# Altium footprint library SAMTEC_TSW-101-23-T-T.PcbLib: 1 footprints
Each footprint in its own frame and in the unit in brackets; x right, y up, seen from the top. Pads: shape width x height; smd on the part's side, far side on the other; paste and mask are expansions set on the pad; w line width, h text height; cw(c..) or ccw(c..) is an arc to the next point about the centre after c.
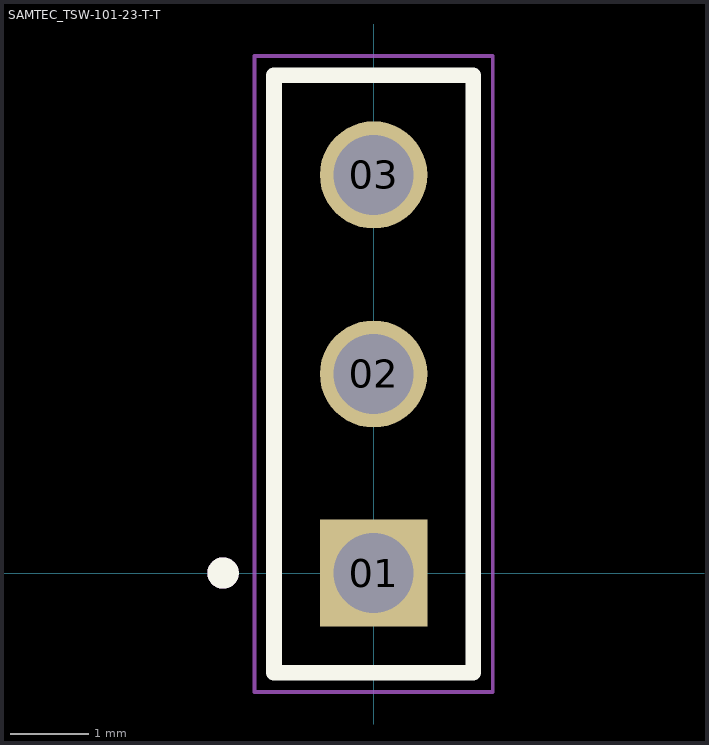
[diagram p0: the footprint, top view; thin cyan lines are the x and y axes]

## SAMTEC_TSW-101-23-T-T [mm]
pads (3):
  rect 1.37x1.37 hole 1.02: 01(0,0)
  round 1.37 hole 1.02: 02(0,2.54) 03(0,5.08)
Top Overlay:
  circle w0.2: c-1.92,0 r0.1
  lines w0.2: -1.27,-1.27 -1.27,6.35 1.27,6.35 1.27,-1.27 -1.27,-1.27
Mechanical 13:
  circle w0.2: c-1.92,0 r0.1
  lines w0.1: -1.27,-1.27 -1.27,6.35 ; -1.27,-1.27 1.27,-1.27 ; -1.27,-1.27 -1.27,6.35 ; -1.27,6.35 1.27,6.35 ; -1.27,6.35 1.27,6.35 ; 1.27,-1.27 1.27,6.35 ; 1.27,-1.27 1.27,6.35
Mechanical 15:
  lines w0.05: -1.52,-1.52 -1.52,6.6 1.52,6.6 1.52,-1.52 -1.52,-1.52
3D body "TSW-101-23-T-T.stp": height 8.38, standoff -2.92, extent -1.27,-1.27 1.27,6.35